# EAGLE library part ADF4110 (library analog-devices)
PLL Frequency Synthesizer
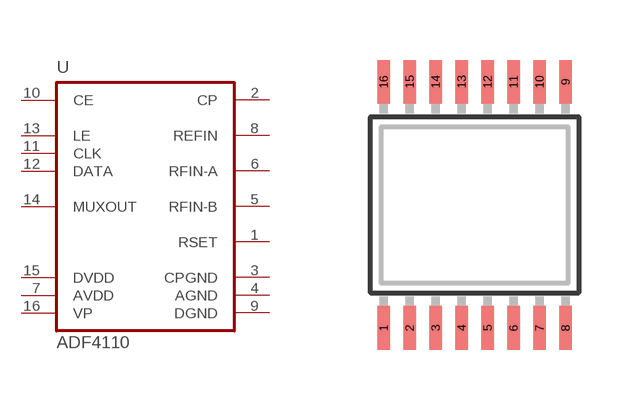
[diagram p52: symbol with the pads of TSSOP16; footprint TSSOP16]

Designator prefix U

## ADF4110BRU (P1I: o)  [TSSOP16]
1  RSET  pas
2  CP  out
3  CPGND  pwr
4  AGND  pwr
5  RFIN-B  in
6  RFIN-A  in
7  AVDD  pwr
8  REFIN  in
9  DGND  pwr
10  CE  in
11  CLK  in
12  DATA  in
13  LE  in
14  MUXOUT  out
15  DVDD  pwr
16  VP  pwr

## Footprint TSSOP16 (pad centres in mm)
Thin Shrink Small Outline Plastic 16
smd 0.31 x 1.1: 1 -2.275,-3.08; 2 -1.625,-3.08; 3 -0.975,-3.08; 4 -0.325,-3.08; 5 0.325,-3.08; 6 0.975,-3.08; 7 1.625,-3.08; 8 2.275,-3.08; 9 2.275,3.08; 10 1.625,3.08; 11 0.975,3.08; 12 0.325,3.08; 13 -0.325,3.08; 14 -0.975,3.08; 15 -1.625,3.08; 16 -2.275,3.08